# Altium footprint library Connector_Hirose_DF40.PcbLib: 70 footprints (part 5 of 5)
Each footprint in its own frame and in the unit in brackets; x right, y up, seen from the top. Pads: shape width x height; smd on the part's side, far side on the other; paste and mask are expansions set on the pad; w line width, h text height; cw(c..) or ccw(c..) is an arc to the next point about the centre after c.
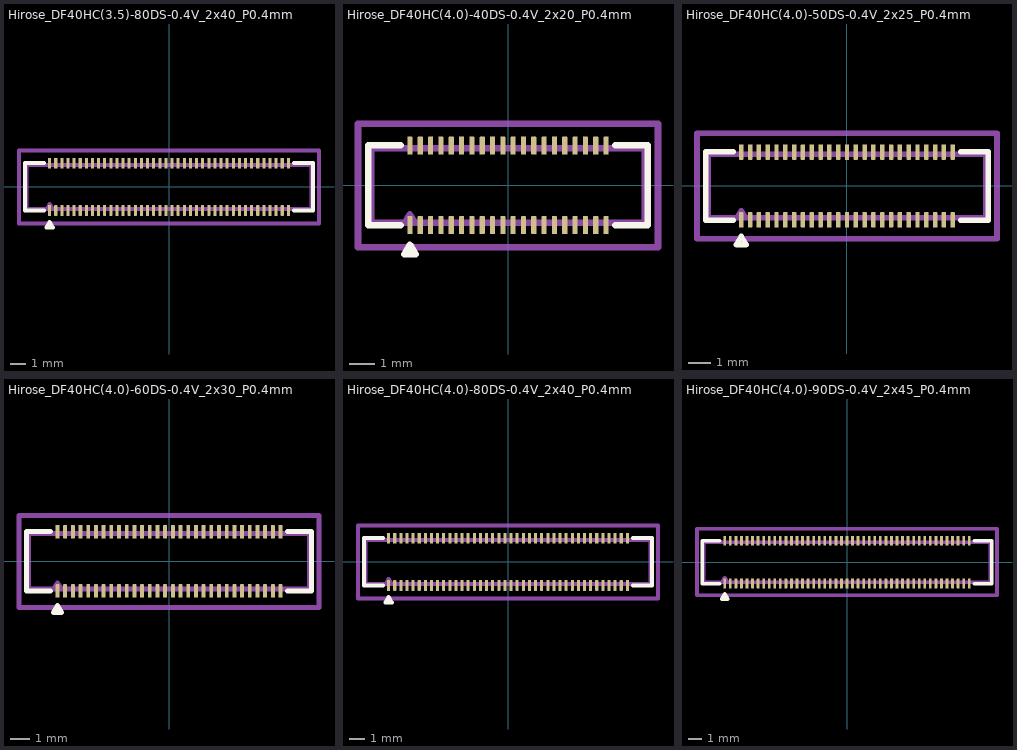
[diagram p4: the footprints below, top view; thin cyan lines are the x and y axes]

## Hirose_DF40HC(3.5)-80DS-0.4V_2x40_P0.4mm [mm]
pads (80):
  rrect25% 0.2x0.7 smd: 1(-7.8,-1.54) 2(-7.8,1.54) 3(-7.4,-1.54) 4(-7.4,1.54) 5(-7,-1.54) 6(-7,1.54) 7(-6.6,-1.54) 8(-6.6,1.54) 9(-6.2,-1.54) 10(-6.2,1.54) 11(-5.8,-1.54) 12(-5.8,1.54) 13(-5.4,-1.54) 14(-5.4,1.54) 15(-5,-1.54) 16(-5,1.54) 17(-4.6,-1.54) 18(-4.6,1.54) 19(-4.2,-1.54) 20(-4.2,1.54) 21(-3.8,-1.54) 22(-3.8,1.54) 23(-3.4,-1.54) 24(-3.4,1.54) 25(-3,-1.54) 26(-3,1.54) 27(-2.6,-1.54) 28(-2.6,1.54) 29(-2.2,-1.54) 30(-2.2,1.54) 31(-1.8,-1.54) 32(-1.8,1.54) 33(-1.4,-1.54) 34(-1.4,1.54) 35(-1,-1.54) 36(-1,1.54) 37(-0.6,-1.54) 38(-0.6,1.54) 39(-0.2,-1.54) 40(-0.2,1.54) 41(0.2,-1.54) 42(0.2,1.54) 43(0.6,-1.54) 44(0.6,1.54) 45(1,-1.54) 46(1,1.54) 47(1.4,-1.54) 48(1.4,1.54) 49(1.8,-1.54) 50(1.8,1.54) 51(2.2,-1.54) 52(2.2,1.54) 53(2.6,-1.54) 54(2.6,1.54) 55(3,-1.54) 56(3,1.54) 57(3.4,-1.54) 58(3.4,1.54) 59(3.8,-1.54) 60(3.8,1.54) 61(4.2,-1.54) 62(4.2,1.54) 63(4.6,-1.54) 64(4.6,1.54) 65(5,-1.54) 66(5,1.54) 67(5.4,-1.54) 68(5.4,1.54) 69(5.8,-1.54) 70(5.8,1.54) 71(6.2,-1.54) 72(6.2,1.54) 73(6.6,-1.54) 74(6.6,1.54) 75(7,-1.54) 76(7,1.54) 77(7.4,-1.54) 78(7.4,1.54) 79(7.8,-1.54) 80(7.8,1.54)
F.SilkS:
  lines w0.254: -8.16,-1.55 -9.41,-1.55 -9.41,1.55 -8.16,1.55 ; 8.16,-1.55 9.41,-1.55 9.41,1.55 8.16,1.55 ; -8.017,-2.665 -7.583,-2.665 -7.8,-2.29 -8.017,-2.665
Top Assembly:
  lines w0.254: -8,-1.44 -7.8,-1.12 -7.6,-1.44 ; -9.3,-1.44 9.3,-1.44 9.3,1.44 -9.3,1.44 -9.3,-1.44
  text "'.Designator'" at -4.047,-0.84 h1
Top Courtyard:
  lines w0.254: -9.8,-2.39 9.8,-2.39 9.8,2.39 -9.8,2.39 -9.8,-2.39
Top Designator:
  text ".Designator" at -7.618,-0.645 h1.52

## Hirose_DF40HC(4.0)-40DS-0.4V_2x20_P0.4mm [mm]
pads (40):
  rrect25% 0.2x0.7 smd: 1(-3.8,-1.54) 2(-3.8,1.54) 3(-3.4,-1.54) 4(-3.4,1.54) 5(-3,-1.54) 6(-3,1.54) 7(-2.6,-1.54) 8(-2.6,1.54) 9(-2.2,-1.54) 10(-2.2,1.54) 11(-1.8,-1.54) 12(-1.8,1.54) 13(-1.4,-1.54) 14(-1.4,1.54) 15(-1,-1.54) 16(-1,1.54) 17(-0.6,-1.54) 18(-0.6,1.54) 19(-0.2,-1.54) 20(-0.2,1.54) 21(0.2,-1.54) 22(0.2,1.54) 23(0.6,-1.54) 24(0.6,1.54) 25(1,-1.54) 26(1,1.54) 27(1.4,-1.54) 28(1.4,1.54) 29(1.8,-1.54) 30(1.8,1.54) 31(2.2,-1.54) 32(2.2,1.54) 33(2.6,-1.54) 34(2.6,1.54) 35(3,-1.54) 36(3,1.54) 37(3.4,-1.54) 38(3.4,1.54) 39(3.8,-1.54) 40(3.8,1.54)
F.SilkS:
  lines w0.254: -4.16,-1.55 -5.41,-1.55 -5.41,1.55 -4.16,1.55 ; 4.16,-1.55 5.41,-1.55 5.41,1.55 4.16,1.55 ; -4.017,-2.665 -3.583,-2.665 -3.8,-2.29 -4.017,-2.665
Top Assembly:
  lines w0.254: -4,-1.44 -3.8,-1.12 -3.6,-1.44 ; -5.3,-1.44 5.3,-1.44 5.3,1.44 -5.3,1.44 -5.3,-1.44
  text "'.Designator'" at -4.047,-0.84 h1
Top Courtyard:
  lines w0.254: -5.81,-2.39 5.81,-2.39 5.81,2.39 -5.81,2.39 -5.81,-2.39
Top Designator:
  text ".Designator" at -7.618,-0.645 h1.52

## Hirose_DF40HC(4.0)-50DS-0.4V_2x25_P0.4mm [mm]
pads (50):
  rrect25% 0.2x0.7 smd: 1(-4.8,-1.54) 2(-4.8,1.54) 3(-4.4,-1.54) 4(-4.4,1.54) 5(-4,-1.54) 6(-4,1.54) 7(-3.6,-1.54) 8(-3.6,1.54) 9(-3.2,-1.54) 10(-3.2,1.54) 11(-2.8,-1.54) 12(-2.8,1.54) 13(-2.4,-1.54) 14(-2.4,1.54) 15(-2,-1.54) 16(-2,1.54) 17(-1.6,-1.54) 18(-1.6,1.54) 19(-1.2,-1.54) 20(-1.2,1.54) 21(-0.8,-1.54) 22(-0.8,1.54) 23(-0.4,-1.54) 24(-0.4,1.54) 25(0,-1.54) 26(0,1.54) 27(0.4,-1.54) 28(0.4,1.54) 29(0.8,-1.54) 30(0.8,1.54) 31(1.2,-1.54) 32(1.2,1.54) 33(1.6,-1.54) 34(1.6,1.54) 35(2,-1.54) 36(2,1.54) 37(2.4,-1.54) 38(2.4,1.54) 39(2.8,-1.54) 40(2.8,1.54) 41(3.2,-1.54) 42(3.2,1.54) 43(3.6,-1.54) 44(3.6,1.54) 45(4,-1.54) 46(4,1.54) 47(4.4,-1.54) 48(4.4,1.54) 49(4.8,-1.54) 50(4.8,1.54)
F.SilkS:
  lines w0.254: -5.16,-1.55 -6.41,-1.55 -6.41,1.55 -5.16,1.55 ; 5.16,-1.55 6.41,-1.55 6.41,1.55 5.16,1.55 ; -5.017,-2.665 -4.583,-2.665 -4.8,-2.29 -5.017,-2.665
Top Assembly:
  lines w0.254: -5,-1.44 -4.8,-1.12 -4.6,-1.44 ; -6.3,-1.44 6.3,-1.44 6.3,1.44 -6.3,1.44 -6.3,-1.44
  text "'.Designator'" at -4.047,-0.84 h1
Top Courtyard:
  lines w0.254: -6.81,-2.39 6.81,-2.39 6.81,2.39 -6.81,2.39 -6.81,-2.39
Top Designator:
  text ".Designator" at -7.618,-0.645 h1.52

## Hirose_DF40HC(4.0)-60DS-0.4V_2x30_P0.4mm [mm]
pads (60):
  rrect25% 0.2x0.7 smd: 1(-5.8,-1.54) 2(-5.8,1.54) 3(-5.4,-1.54) 4(-5.4,1.54) 5(-5,-1.54) 6(-5,1.54) 7(-4.6,-1.54) 8(-4.6,1.54) 9(-4.2,-1.54) 10(-4.2,1.54) 11(-3.8,-1.54) 12(-3.8,1.54) 13(-3.4,-1.54) 14(-3.4,1.54) 15(-3,-1.54) 16(-3,1.54) 17(-2.6,-1.54) 18(-2.6,1.54) 19(-2.2,-1.54) 20(-2.2,1.54) 21(-1.8,-1.54) 22(-1.8,1.54) 23(-1.4,-1.54) 24(-1.4,1.54) 25(-1,-1.54) 26(-1,1.54) 27(-0.6,-1.54) 28(-0.6,1.54) 29(-0.2,-1.54) 30(-0.2,1.54) 31(0.2,-1.54) 32(0.2,1.54) 33(0.6,-1.54) 34(0.6,1.54) 35(1,-1.54) 36(1,1.54) 37(1.4,-1.54) 38(1.4,1.54) 39(1.8,-1.54) 40(1.8,1.54) 41(2.2,-1.54) 42(2.2,1.54) 43(2.6,-1.54) 44(2.6,1.54) 45(3,-1.54) 46(3,1.54) 47(3.4,-1.54) 48(3.4,1.54) 49(3.8,-1.54) 50(3.8,1.54) 51(4.2,-1.54) 52(4.2,1.54) 53(4.6,-1.54) 54(4.6,1.54) 55(5,-1.54) 56(5,1.54) 57(5.4,-1.54) 58(5.4,1.54) 59(5.8,-1.54) 60(5.8,1.54)
F.SilkS:
  lines w0.254: -6.16,-1.55 -7.41,-1.55 -7.41,1.55 -6.16,1.55 ; 6.16,-1.55 7.41,-1.55 7.41,1.55 6.16,1.55 ; -6.017,-2.665 -5.583,-2.665 -5.8,-2.29 -6.017,-2.665
Top Assembly:
  lines w0.254: -6,-1.44 -5.8,-1.12 -5.6,-1.44 ; -7.3,-1.44 7.3,-1.44 7.3,1.44 -7.3,1.44 -7.3,-1.44
  text "'.Designator'" at -4.047,-0.84 h1
Top Courtyard:
  lines w0.254: -7.8,-2.39 7.8,-2.39 7.8,2.39 -7.8,2.39 -7.8,-2.39
Top Designator:
  text ".Designator" at -7.618,-0.645 h1.52

## Hirose_DF40HC(4.0)-80DS-0.4V_2x40_P0.4mm [mm]
pads (80):
  rrect25% 0.2x0.7 smd: 1(-7.8,-1.54) 2(-7.8,1.54) 3(-7.4,-1.54) 4(-7.4,1.54) 5(-7,-1.54) 6(-7,1.54) 7(-6.6,-1.54) 8(-6.6,1.54) 9(-6.2,-1.54) 10(-6.2,1.54) 11(-5.8,-1.54) 12(-5.8,1.54) 13(-5.4,-1.54) 14(-5.4,1.54) 15(-5,-1.54) 16(-5,1.54) 17(-4.6,-1.54) 18(-4.6,1.54) 19(-4.2,-1.54) 20(-4.2,1.54) 21(-3.8,-1.54) 22(-3.8,1.54) 23(-3.4,-1.54) 24(-3.4,1.54) 25(-3,-1.54) 26(-3,1.54) 27(-2.6,-1.54) 28(-2.6,1.54) 29(-2.2,-1.54) 30(-2.2,1.54) 31(-1.8,-1.54) 32(-1.8,1.54) 33(-1.4,-1.54) 34(-1.4,1.54) 35(-1,-1.54) 36(-1,1.54) 37(-0.6,-1.54) 38(-0.6,1.54) 39(-0.2,-1.54) 40(-0.2,1.54) 41(0.2,-1.54) 42(0.2,1.54) 43(0.6,-1.54) 44(0.6,1.54) 45(1,-1.54) 46(1,1.54) 47(1.4,-1.54) 48(1.4,1.54) 49(1.8,-1.54) 50(1.8,1.54) 51(2.2,-1.54) 52(2.2,1.54) 53(2.6,-1.54) 54(2.6,1.54) 55(3,-1.54) 56(3,1.54) 57(3.4,-1.54) 58(3.4,1.54) 59(3.8,-1.54) 60(3.8,1.54) 61(4.2,-1.54) 62(4.2,1.54) 63(4.6,-1.54) 64(4.6,1.54) 65(5,-1.54) 66(5,1.54) 67(5.4,-1.54) 68(5.4,1.54) 69(5.8,-1.54) 70(5.8,1.54) 71(6.2,-1.54) 72(6.2,1.54) 73(6.6,-1.54) 74(6.6,1.54) 75(7,-1.54) 76(7,1.54) 77(7.4,-1.54) 78(7.4,1.54) 79(7.8,-1.54) 80(7.8,1.54)
F.SilkS:
  lines w0.254: -8.16,-1.55 -9.41,-1.55 -9.41,1.55 -8.16,1.55 ; 8.16,-1.55 9.41,-1.55 9.41,1.55 8.16,1.55 ; -8.017,-2.665 -7.583,-2.665 -7.8,-2.29 -8.017,-2.665
Top Assembly:
  lines w0.254: -8,-1.44 -7.8,-1.12 -7.6,-1.44 ; -9.3,-1.44 9.3,-1.44 9.3,1.44 -9.3,1.44 -9.3,-1.44
  text "'.Designator'" at -4.047,-0.84 h1
Top Courtyard:
  lines w0.254: -9.8,-2.39 9.8,-2.39 9.8,2.39 -9.8,2.39 -9.8,-2.39
Top Designator:
  text ".Designator" at -7.618,-0.645 h1.52

## Hirose_DF40HC(4.0)-90DS-0.4V_2x45_P0.4mm [mm]
pads (90):
  rrect25% 0.2x0.7 smd: 1(-8.8,-1.54) 2(-8.8,1.54) 3(-8.4,-1.54) 4(-8.4,1.54) 5(-8,-1.54) 6(-8,1.54) 7(-7.6,-1.54) 8(-7.6,1.54) 9(-7.2,-1.54) 10(-7.2,1.54) 11(-6.8,-1.54) 12(-6.8,1.54) 13(-6.4,-1.54) 14(-6.4,1.54) 15(-6,-1.54) 16(-6,1.54) 17(-5.6,-1.54) 18(-5.6,1.54) 19(-5.2,-1.54) 20(-5.2,1.54) 21(-4.8,-1.54) 22(-4.8,1.54) 23(-4.4,-1.54) 24(-4.4,1.54) 25(-4,-1.54) 26(-4,1.54) 27(-3.6,-1.54) 28(-3.6,1.54) 29(-3.2,-1.54) 30(-3.2,1.54) 31(-2.8,-1.54) 32(-2.8,1.54) 33(-2.4,-1.54) 34(-2.4,1.54) 35(-2,-1.54) 36(-2,1.54) 37(-1.6,-1.54) 38(-1.6,1.54) 39(-1.2,-1.54) 40(-1.2,1.54) 41(-0.8,-1.54) 42(-0.8,1.54) 43(-0.4,-1.54) 44(-0.4,1.54) 45(0,-1.54) 46(0,1.54) 47(0.4,-1.54) 48(0.4,1.54) 49(0.8,-1.54) 50(0.8,1.54) 51(1.2,-1.54) 52(1.2,1.54) 53(1.6,-1.54) 54(1.6,1.54) 55(2,-1.54) 56(2,1.54) 57(2.4,-1.54) 58(2.4,1.54) 59(2.8,-1.54) 60(2.8,1.54) 61(3.2,-1.54) 62(3.2,1.54) 63(3.6,-1.54) 64(3.6,1.54) 65(4,-1.54) 66(4,1.54) 67(4.4,-1.54) 68(4.4,1.54) 69(4.8,-1.54) 70(4.8,1.54) 71(5.2,-1.54) 72(5.2,1.54) 73(5.6,-1.54) 74(5.6,1.54) 75(6,-1.54) 76(6,1.54) 77(6.4,-1.54) 78(6.4,1.54) 79(6.8,-1.54) 80(6.8,1.54) 81(7.2,-1.54) 82(7.2,1.54) 83(7.6,-1.54) 84(7.6,1.54) 85(8,-1.54) 86(8,1.54) 87(8.4,-1.54) 88(8.4,1.54) 89(8.8,-1.54) 90(8.8,1.54)
F.SilkS:
  lines w0.254: -9.16,-1.55 -10.41,-1.55 -10.41,1.55 -9.16,1.55 ; 9.16,-1.55 10.41,-1.55 10.41,1.55 9.16,1.55 ; -9.017,-2.665 -8.583,-2.665 -8.8,-2.29 -9.017,-2.665
Top Assembly:
  lines w0.254: -9,-1.44 -8.8,-1.12 -8.6,-1.44 ; -10.3,-1.44 10.3,-1.44 10.3,1.44 -10.3,1.44 -10.3,-1.44
  text "'.Designator'" at -4.047,-0.84 h1
Top Courtyard:
  lines w0.254: -10.8,-2.39 10.8,-2.39 10.8,2.39 -10.8,2.39 -10.8,-2.39
Top Designator:
  text ".Designator" at -7.618,-0.645 h1.52